# Altium footprint library WE-OLLT.PcbLib: 21 footprints (part 1 of 2)
Each footprint in its own frame and in the unit in brackets; x right, y up, seen from the top. Pads: shape width x height; smd on the part's side, far side on the other; paste and mask are expansions set on the pad; w line width, h text height; cw(c..) or ccw(c..) is an arc to the next point about the centre after c.
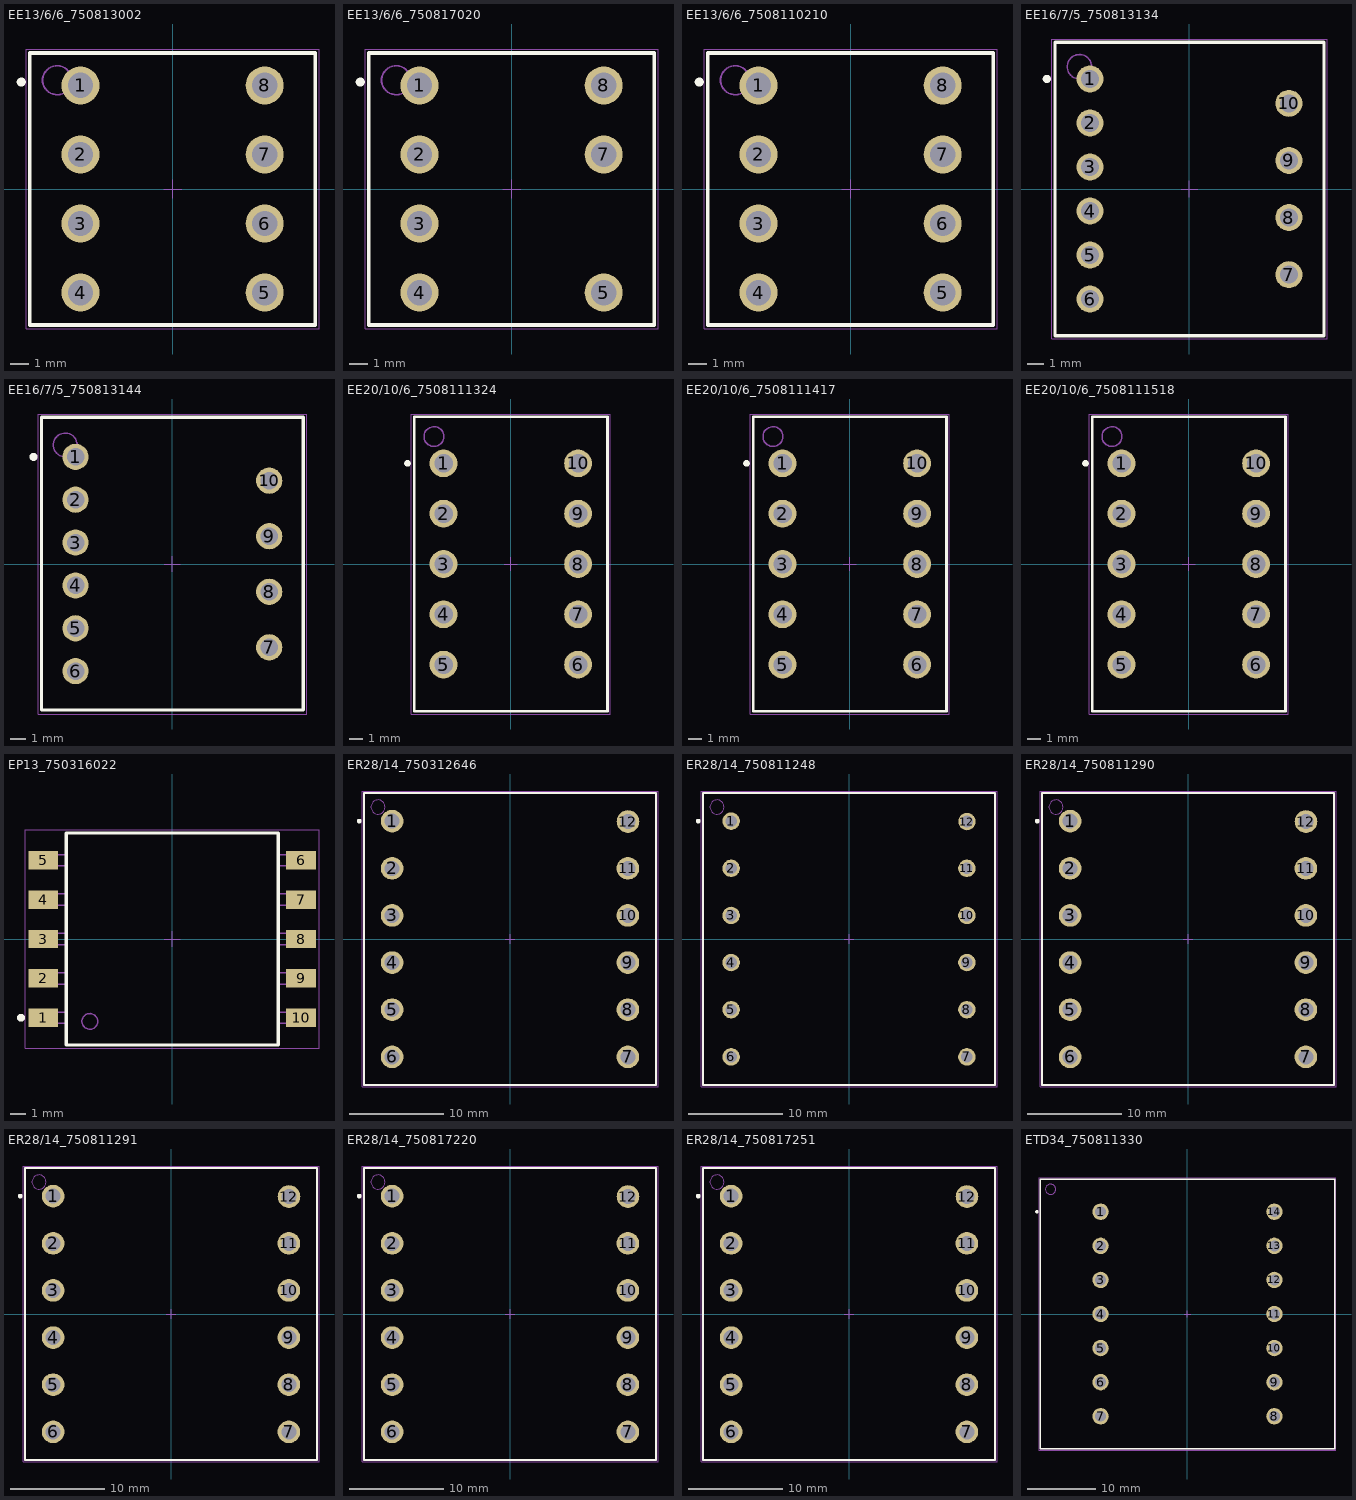
[diagram p0: the footprints below, top view; thin cyan lines are the x and y axes]

## EE13/6/6_750813002 [mm] "Offline Flyback Transformer, THT, body 15.75 x 15.00 mm"
height 18.5
pads (8):
  round 2.1 hole 1.4: 1(-5.08,5.715) 2(-5.08,1.905) 3(-5.08,-1.905) 4(-5.08,-5.715) 5(5.08,-5.715) 6(5.08,-1.905) 7(5.08,1.905) 8(5.08,5.715)
Top Overlay:
  circle w0.25: c-8.35,5.9 r0.125
  lines w0.2: -7.875,-7.5 7.875,-7.5 7.875,7.5 -7.875,7.5 -7.875,-7.5
Top Component Outline:
  circle w0.1: c-6.375,6 r0.8
  lines w0.1: -7.875,-7.5 7.875,-7.5 7.875,7.5 -7.875,7.5 -7.875,-7.5
Top Courtyard:
  lines w0.05: -8.075,-7.7 8.075,-7.7 8.075,7.7 -8.075,7.7 -8.075,-7.7
Top Component Center:
  lines w0.05: -0.5,0 0.5,0 ; 0,-0.5 0,0.5
Top Designator (Mech19):
  text ".Designator" at -7.498,-0.5 h1.5
3D body "070-5449 (rev1).STEP": height 17.56, standoff -3.46, extent -7.416,-7.165 7.493,7.085

## EE13/6/6_750817020 [mm] "Offline Flyback Transformer, THT, body 15.75 x 15.00 mm"
height 18.5
pads (7):
  round 2.1 hole 1.4: 1(-5.08,5.715) 2(-5.08,1.905) 3(-5.08,-1.905) 4(-5.08,-5.715) 5(5.08,-5.715) 7(5.08,1.905) 8(5.08,5.715)
Top Overlay:
  circle w0.25: c-8.35,5.9 r0.125
  lines w0.2: -7.875,-7.5 7.875,-7.5 7.875,7.5 -7.875,7.5 -7.875,-7.5
Top Component Outline:
  circle w0.1: c-6.375,6 r0.8
  lines w0.1: -7.875,-7.5 7.875,-7.5 7.875,7.5 -7.875,7.5 -7.875,-7.5
Top Courtyard:
  lines w0.05: -8.075,-7.7 8.075,-7.7 8.075,7.7 -8.075,7.7 -8.075,-7.7
Top Component Center:
  lines w0.05: -0.5,0 0.5,0 ; 0,-0.5 0,0.5
Top Designator (Mech19):
  text ".Designator" at -7.498,-0.5 h1.5
3D body "070-5449_MP6 (rev1).STEP": height 17.56, standoff -3.46, extent -7.455,-7.125 7.455,7.125

## EE13/6/6_7508110210 [mm] "Offline Flyback Transformer, THT, body 15.75 x 15.00 mm"
height 18.5
pads (8):
  round 2.1 hole 1.4: 1(-5.08,5.715) 2(-5.08,1.905) 3(-5.08,-1.905) 4(-5.08,-5.715) 5(5.08,-5.715) 6(5.08,-1.905) 7(5.08,1.905) 8(5.08,5.715)
Top Overlay:
  circle w0.25: c-8.35,5.9 r0.125
  lines w0.2: -7.875,-7.5 7.875,-7.5 7.875,7.5 -7.875,7.5 -7.875,-7.5
Top Component Outline:
  circle w0.1: c-6.375,6 r0.8
  lines w0.1: -7.875,-7.5 7.875,-7.5 7.875,7.5 -7.875,7.5 -7.875,-7.5
Top Courtyard:
  lines w0.05: -8.075,-7.7 8.075,-7.7 8.075,7.7 -8.075,7.7 -8.075,-7.7
Top Component Center:
  lines w0.05: -0.5,0 0.5,0 ; 0,-0.5 0,0.5
Top Designator (Mech19):
  text ".Designator" at -7.498,-0.5 h1.5
3D body "070-5449 (rev1).STEP": height 17.56, standoff -3.46, extent -7.416,-7.165 7.493,7.085

## EE16/7/5_750813134 [mm] "Offline Flyback Transformer, THT, body 16.50 x 18.00"
height 18
pads (10):
  round 1.65 hole 1.1: 1(-6.1,6.75) 2(-6.1,4.05) 3(-6.1,1.35) 4(-6.1,-1.35) 5(-6.1,-4.05) 6(-6.1,-6.75) 7(6.1,-5.25) 8(6.1,-1.75) 9(6.1,1.75) 10(6.1,5.25)
Top Overlay:
  circle w0.25: c-8.75,6.75 r0.125
  lines w0.2: -8.25,-9 8.25,-9 8.25,9 -8.25,9 -8.25,-9
Top Component Outline:
  circle w0.1: c-6.75,7.5 r0.75
  lines w0.1: -8.25,-9 8.25,-9 8.25,9 -8.25,9 -8.25,-9
Top Courtyard:
  lines w0.05: -8.45,-9.2 8.45,-9.2 8.45,9.2 -8.45,9.2 -8.45,-9.2
Top Component Center:
  lines w0.05: -0.5,0 0.5,0 ; 0,-0.5 0,0.5
Top Designator (Mech19):
  text ".Designator" at -7.498,-0.5 h1.5
3D body "070-5278 (rev1).STEP": height 17.73, standoff -4, extent -7.69,-8.72 7.79,8.9

## EE16/7/5_750813144 [mm] "Offline Flyback Transformer, THT, body 18.50 x 16.50 mm"
height 18.8
pads (10):
  round 1.65 hole 1.1: 1(-6.1,6.75) 2(-6.1,4.05) 3(-6.1,1.35) 4(-6.1,-1.35) 5(-6.1,-4.05) 6(-6.1,-6.75) 7(6.1,-5.25) 8(6.1,-1.75) 9(6.1,1.75) 10(6.1,5.25)
Top Overlay:
  circle w0.25: c-8.75,6.75 r0.125
  lines w0.2: -8.25,-9.2 8.25,-9.2 8.25,9.25 -8.25,9.25 -8.25,-9.2
Top Component Outline:
  circle w0.1: c-6.75,7.5 r0.75
  lines w0.1: -8.25,-9.2 8.25,-9.2 8.25,9.25 -8.25,9.25 -8.25,-9.2
Top Courtyard:
  lines w0.05: -8.45,-9.45 8.45,-9.45 8.45,9.45 -8.45,9.45 -8.45,-9.45
Top Component Center:
  lines w0.05: -0.5,0 0.5,0 ; 0,-0.5 0,0.5
Top Designator (Mech19):
  text ".Designator" at -7.498,-0.5 h1.5
3D body "070-5278 (rev1).STEP": height 17.73, standoff -4, extent -7.69,-8.72 7.79,8.9

## EE20/10/6_7508111324 [mm] "Offline Flyback Transformer, THT, body 14.60 x 22.25 mm"
height 23.24
pads (10):
  round 2.1 hole 1.4: 1(-5.08,7.6) 2(-5.08,3.8) 3(-5.08,0) 4(-5.08,-3.8) 5(-5.08,-7.6) 6(5.08,-7.6) 7(5.08,-3.8) 8(5.08,0) 9(5.08,3.8) 10(5.08,7.6)
Top Overlay:
  circle w0.25: c-7.8,7.6 r0.125
  lines w0.2: -7.3,-11.125 -7.3,11.125 7.3,11.125 7.3,-11.125 -7.3,-11.125
Top Component Outline:
  circle w0.1: c-5.8,9.625 r0.75
  lines w0.1: -7.3,-11.125 -7.3,11.125 7.3,11.125 7.3,-11.125 -7.3,-11.125
Top Courtyard:
  lines w0.05: -7.5,-11.325 -7.5,11.325 7.5,11.325 7.5,-11.325 -7.5,-11.325
Top Component Center:
  lines w0.05: -0.5,0 0.5,0 ; 0,-0.5 0,0.5
Top Designator (Mech19):
  text ".Designator" at -7.498,-0.5 h1.5
3D body "070-5248 (rev1).STEP": height 23.08, standoff -3.48, extent -6.9,-11.05 7,10.95

## EE20/10/6_7508111417 [mm] "Offline Flyback Transformer, THT, body 14.60 x 22.25 mm"
height 23.24
pads (10):
  round 2.1 hole 1.4: 1(-5.08,7.6) 2(-5.08,3.8) 3(-5.08,0) 4(-5.08,-3.8) 5(-5.08,-7.6) 6(5.08,-7.6) 7(5.08,-3.8) 8(5.08,0) 9(5.08,3.8) 10(5.08,7.6)
Top Overlay:
  circle w0.25: c-7.8,7.6 r0.125
  lines w0.2: -7.3,-11.125 7.3,-11.125 7.3,11.125 -7.3,11.125 -7.3,-11.125
Top Component Outline:
  circle w0.1: c-5.8,9.625 r0.75
  lines w0.1: -7.3,-11.125 7.3,-11.125 7.3,11.125 -7.3,11.125 -7.3,-11.125
Top Courtyard:
  lines w0.05: -7.5,-11.325 7.5,-11.325 7.5,11.325 -7.5,11.325 -7.5,-11.325
Top Component Center:
  lines w0.05: -0.5,0 0.5,0 ; 0,-0.5 0,0.5
Top Designator (Mech19):
  text ".Designator" at -7.498,-0.5 h1.5
3D body "070-5248 (rev1).STEP": height 23.08, standoff -3.48, extent -6.9,-11.05 7,10.95

## EE20/10/6_7508111518 [mm] "Offline Flyback Transformer, THT, body 14.60 x 22.25 mm"
height 23.24
pads (10):
  round 2.1 hole 1.4: 1(-5.08,7.6) 2(-5.08,3.8) 3(-5.08,0) 4(-5.08,-3.8) 5(-5.08,-7.6) 6(5.08,-7.6) 7(5.08,-3.8) 8(5.08,0) 9(5.08,3.8) 10(5.08,7.6)
Top Overlay:
  circle w0.25: c-7.8,7.6 r0.125
  lines w0.2: -7.3,-11.125 -7.3,11.125 7.3,11.125 7.3,-11.125 -7.3,-11.125
Top Component Outline:
  circle w0.1: c-5.8,9.625 r0.75
  lines w0.1: -7.3,-11.125 -7.3,11.125 7.3,11.125 7.3,-11.125 -7.3,-11.125
Top Courtyard:
  lines w0.05: -7.5,-11.325 -7.5,11.325 7.5,11.325 7.5,-11.325 -7.5,-11.325
Top Component Center:
  lines w0.05: -0.5,0 0.5,0 ; 0,-0.5 0,0.5
Top Designator (Mech19):
  text ".Designator" at -7.498,-0.5 h1.5
3D body "070-5248 (rev1).STEP": height 23.08, standoff -3.48, extent -6.9,-11.05 7,10.95

## EP13_750316022 [mm] "Offline Flyback Transformer, SMT, body 17.75 x 13.46 mm"
height 12.7
pads (10):
  rect 1.88x1.17 smd: 1(-8.18,-5) 2(-8.18,-2.5) 3(-8.18,0) 4(-8.18,2.5) 5(-8.18,5) 6(8.18,5) 7(8.18,2.5) 8(8.18,0) 9(8.18,-2.5) 10(8.18,-5)
Top Overlay:
  circle w0.25: c-9.6,-5 r0.125
  lines w0.2: -6.73,-6.73 -6.73,6.73 6.73,6.73 6.73,-6.73 -6.73,-6.73
Top Component Outline:
  circle w0.1: c-5.23,-5.23 r0.5
  lines w0.1: -6.73,-5.36 -8.58,-5.36 -8.58,-4.64 -6.73,-4.64 ; -6.73,-2.86 -8.58,-2.86 -8.58,-2.14 -6.73,-2.14 ; -6.73,-0.36 -8.58,-0.36 -8.58,0.36 -6.73,0.36 ; -6.73,2.14 -8.58,2.14 -8.58,2.86 -6.73,2.86 ; -6.73,4.64 -8.58,4.64 -8.58,5.36 -6.73,5.36 ; 6.73,-5.36 8.58,-5.36 8.58,-4.64 6.73,-4.64 ; 6.73,-2.86 8.58,-2.86 8.58,-2.14 6.73,-2.14 ; 6.73,-0.36 8.58,-0.36 8.58,0.36 6.73,0.36 ; 6.73,2.14 8.58,2.14 8.58,2.86 6.73,2.86 ; 6.73,4.64 8.58,4.64 8.58,5.36 6.73,5.36 ; -6.73,-6.73 6.73,-6.73 6.73,6.73 -6.73,6.73 -6.73,-6.73
Top Courtyard:
  lines w0.05: -9.32,-6.93 -9.32,6.93 9.32,6.93 9.32,-6.93 -9.32,-6.93
Top Component Center:
  lines w0.05: -0.5,0 0.5,0 ; 0,-0.5 0,0.5
Top Designator (Mech19):
  text ".Designator" at -7.498,-0.5 h1.5
3D body "070-5465 (rev1) (3).STEP": height 11.98, standoff 0.02, extent -8.58,-6.55 8.58,6.55

## ER28/14_750312646 [mm] "Offline Flyback Transformer, THT, body 31.00 x 31.00 mm"
height 25
pads (12):
  round 2.4 hole 1.6: 1(-12.5,12.5) 2(-12.5,7.5) 3(-12.5,2.5) 4(-12.5,-2.5) 5(-12.5,-7.5) 6(-12.5,-12.5) 7(12.5,-12.5) 8(12.5,-7.5) 9(12.5,-2.5) 10(12.5,2.5) 11(12.5,7.5) 12(12.515,12.461)
Top Overlay:
  circle w0.25: c-16,12.5 r0.125
  lines w0.2: -15.5,-15.5 15.5,-15.5 15.5,15.5 -15.5,15.5 -15.5,-15.5
Top Component Outline:
  circle w0.1: c-14,14 r0.75
  lines w0.1: -15.5,-15.5 15.5,-15.5 15.5,15.5 -15.5,15.5 -15.5,-15.5
Top Courtyard:
  lines w0.05: -15.7,-15.7 15.7,-15.7 15.7,15.7 -15.7,15.7 -15.7,-15.7
Top Component Center:
  lines w0.05: -0.5,0 0.5,0 ; 0,-0.5 0,0.5
Top Designator (Mech19):
  text ".Designator" at -7.498,-0.5 h1.5
3D body "070-4869 (rev1).STEP": height 23.92, standoff -3.96, extent -14.42,-14.61 14.5,14.81

## ER28/14_750811248 [mm] "Offline Flyback Transformer, THT, body 31.00 x 31.00 mm"
height 25
pads (12):
  round 1.85 hole 1.25: 1(-12.5,12.5) 2(-12.5,7.5) 3(-12.5,2.5) 4(-12.5,-2.5) 5(-12.5,-7.5) 6(-12.5,-12.5) 7(12.5,-12.5) 8(12.5,-7.5) 9(12.5,-2.5) 10(12.5,2.5) 11(12.5,7.5) 12(12.515,12.461)
Top Overlay:
  circle w0.25: c-16,12.5 r0.125
  lines w0.2: -15.5,-15.5 -15.5,15.5 15.5,15.5 15.5,-15.5 -15.5,-15.5
Top Component Outline:
  circle w0.1: c-14,14 r0.75
  lines w0.1: -15.5,-15.5 -15.5,15.5 15.5,15.5 15.5,-15.5 -15.5,-15.5
Top Courtyard:
  lines w0.05: -15.7,-15.7 -15.7,15.7 15.7,15.7 15.7,-15.7 -15.7,-15.7
Top Component Center:
  lines w0.05: -0.5,0 0.5,0 ; 0,-0.5 0,0.5
Top Designator (Mech19):
  text ".Designator" at -7.498,-0.5 h1.5
3D body "070-4869 (rev1).STEP": height 23.92, standoff -3.96, extent -14.42,-14.61 14.5,14.81

## ER28/14_750811290 [mm] "Offline Flyback Transformer, THT, body 31.00 x 31.00 mm"
height 25
pads (12):
  round 2.4 hole 1.6: 1(-12.5,12.5) 2(-12.5,7.5) 3(-12.5,2.5) 4(-12.5,-2.5) 5(-12.5,-7.5) 6(-12.5,-12.5) 7(12.5,-12.5) 8(12.5,-7.5) 9(12.5,-2.5) 10(12.5,2.5) 11(12.5,7.5) 12(12.515,12.461)
Top Overlay:
  circle w0.25: c-16,12.5 r0.125
  lines w0.2: -15.5,-15.5 -15.5,15.5 15.5,15.5 15.5,-15.5 -15.5,-15.5
Top Component Outline:
  circle w0.1: c-14,14 r0.75
  lines w0.1: -15.5,-15.5 -15.5,15.5 15.5,15.5 15.5,-15.5 -15.5,-15.5
Top Courtyard:
  lines w0.05: -15.7,-15.7 -15.7,15.7 15.7,15.7 15.7,-15.7 -15.7,-15.7
Top Component Center:
  lines w0.05: -0.5,0 0.5,0 ; 0,-0.5 0,0.5
Top Designator (Mech19):
  text ".Designator" at -7.498,-0.5 h1.5
3D body "070-4869 (rev1).STEP": height 23.92, standoff -3.96, extent -14.42,-14.61 14.5,14.81

## ER28/14_750811291 [mm] "Offline Flyback Transformer, THT, body 31.00 x 31.00 mm"
height 25
pads (12):
  round 2.4 hole 1.6: 1(-12.5,12.5) 2(-12.5,7.5) 3(-12.5,2.5) 4(-12.5,-2.5) 5(-12.5,-7.5) 6(-12.5,-12.5) 7(12.5,-12.5) 8(12.5,-7.5) 9(12.5,-2.5) 10(12.5,2.5) 11(12.5,7.5) 12(12.515,12.461)
Top Overlay:
  circle w0.25: c-16,12.5 r0.125
  lines w0.2: -15.5,-15.5 15.5,-15.5 15.5,15.5 -15.5,15.5 -15.5,-15.5
Top Component Outline:
  circle w0.1: c-14,14 r0.75
  lines w0.1: -15.5,-15.5 15.5,-15.5 15.5,15.5 -15.5,15.5 -15.5,-15.5
Top Courtyard:
  lines w0.05: -15.7,-15.7 15.7,-15.7 15.7,15.7 -15.7,15.7 -15.7,-15.7
Top Component Center:
  lines w0.05: -0.5,0 0.5,0 ; 0,-0.5 0,0.5
Top Designator (Mech19):
  text ".Designator" at -7.498,-0.5 h1.5
3D body "070-4869 (rev1).STEP": height 23.92, standoff -3.96, extent -14.42,-14.61 14.5,14.81

## ER28/14_750817220 [mm] "Offline Flyback Transformer, THT, body 31.00 x 31.00 mm"
height 25
pads (12):
  round 2.4 hole 1.6: 1(-12.5,12.5) 2(-12.5,7.5) 3(-12.5,2.5) 4(-12.5,-2.5) 5(-12.5,-7.5) 6(-12.5,-12.5) 7(12.5,-12.5) 8(12.5,-7.5) 9(12.5,-2.5) 10(12.5,2.5) 11(12.5,7.5) 12(12.515,12.461)
Top Overlay:
  circle w0.25: c-16,12.5 r0.125
  lines w0.2: -15.5,-15.5 15.5,-15.5 15.5,15.5 -15.5,15.5 -15.5,-15.5
Top Component Outline:
  circle w0.1: c-14,14 r0.75
  lines w0.1: -15.5,-15.5 15.5,-15.5 15.5,15.5 -15.5,15.5 -15.5,-15.5
Top Courtyard:
  lines w0.05: -15.7,-15.7 15.7,-15.7 15.7,15.7 -15.7,15.7 -15.7,-15.7
Top Component Center:
  lines w0.05: -0.5,0 0.5,0 ; 0,-0.5 0,0.5
Top Designator (Mech19):
  text ".Designator" at -7.498,-0.5 h1.5
3D body "070-4869 (rev1).STEP": height 23.9, standoff -3.98, extent -14.42,-14.61 14.5,14.81

## ER28/14_750817251 [mm] "Offline Flyback Transformer, THT, body 31.00 x 31.00 mm"
height 25
pads (12):
  round 2.4 hole 1.6: 1(-12.5,12.5) 2(-12.5,7.5) 3(-12.5,2.5) 4(-12.5,-2.5) 5(-12.5,-7.5) 6(-12.5,-12.5) 7(12.5,-12.5) 8(12.5,-7.5) 9(12.5,-2.5) 10(12.5,2.5) 11(12.5,7.5) 12(12.515,12.461)
Top Overlay:
  circle w0.25: c-16,12.5 r0.125
  lines w0.2: -15.5,-15.5 -15.5,15.5 15.5,15.5 15.5,-15.5 -15.5,-15.5
Top Component Outline:
  circle w0.1: c-14,14 r0.75
  lines w0.1: -15.5,-15.5 -15.5,15.5 15.5,15.5 15.5,-15.5 -15.5,-15.5
Top Courtyard:
  lines w0.05: -15.7,-15.7 -15.7,15.7 15.7,15.7 15.7,-15.7 -15.7,-15.7
Top Component Center:
  lines w0.05: -0.5,0 0.5,0 ; 0,-0.5 0,0.5
Top Designator (Mech19):
  text ".Designator" at -7.498,-0.5 h1.5
3D body "070-4869 (rev1).STEP": height 23.92, standoff -3.96, extent -14.42,-14.61 14.5,14.81

## ETD34_750811330 [mm] "Offline Flyback Transformer, THT, body 43.18 x 39.60 mm"
height 30.48
pads (14):
  round 2.4 hole 1.6: 1(-12.75,15) 2(-12.75,10) 3(-12.75,5) 4(-12.75,0) 5(-12.75,-5) 6(-12.75,-10) 7(-12.75,-15) 8(12.75,-15) 9(12.75,-10) 10(12.75,-5) 11(12.75,0) 12(12.75,5) 13(12.75,10) 14(12.75,15)
Top Overlay:
  circle w0.25: c-22.1,15 r0.125
  lines w0.2: -21.59,-19.8 -21.59,19.8 21.59,19.8 21.59,-19.8 -21.59,-19.8
Top Component Outline:
  circle w0.1: c-20.09,18.3 r0.75
  lines w0.1: -21.59,-19.8 -21.59,19.8 21.59,19.8 21.59,-19.8 -21.59,-19.8
Top Courtyard:
  lines w0.05: -21.79,-20 -21.79,20 21.79,20 21.79,-20 -21.79,-20
Top Component Center:
  lines w0.05: -0.5,0 0.5,0 ; 0,-0.5 0,0.5
Top Designator (Mech19):
  text ".Designator" at -7.498,-0.5 h1.5
3D body "070-5455 (rev1).STEP": height 30.49, standoff -4.17, extent -21.59,-19.8 21.59,19.8